# Altium integrated library radFET-calibration_stand_card.IntLib: 9 symbols
Pins are listed as number, name and electrical type; pins without a type are passive.

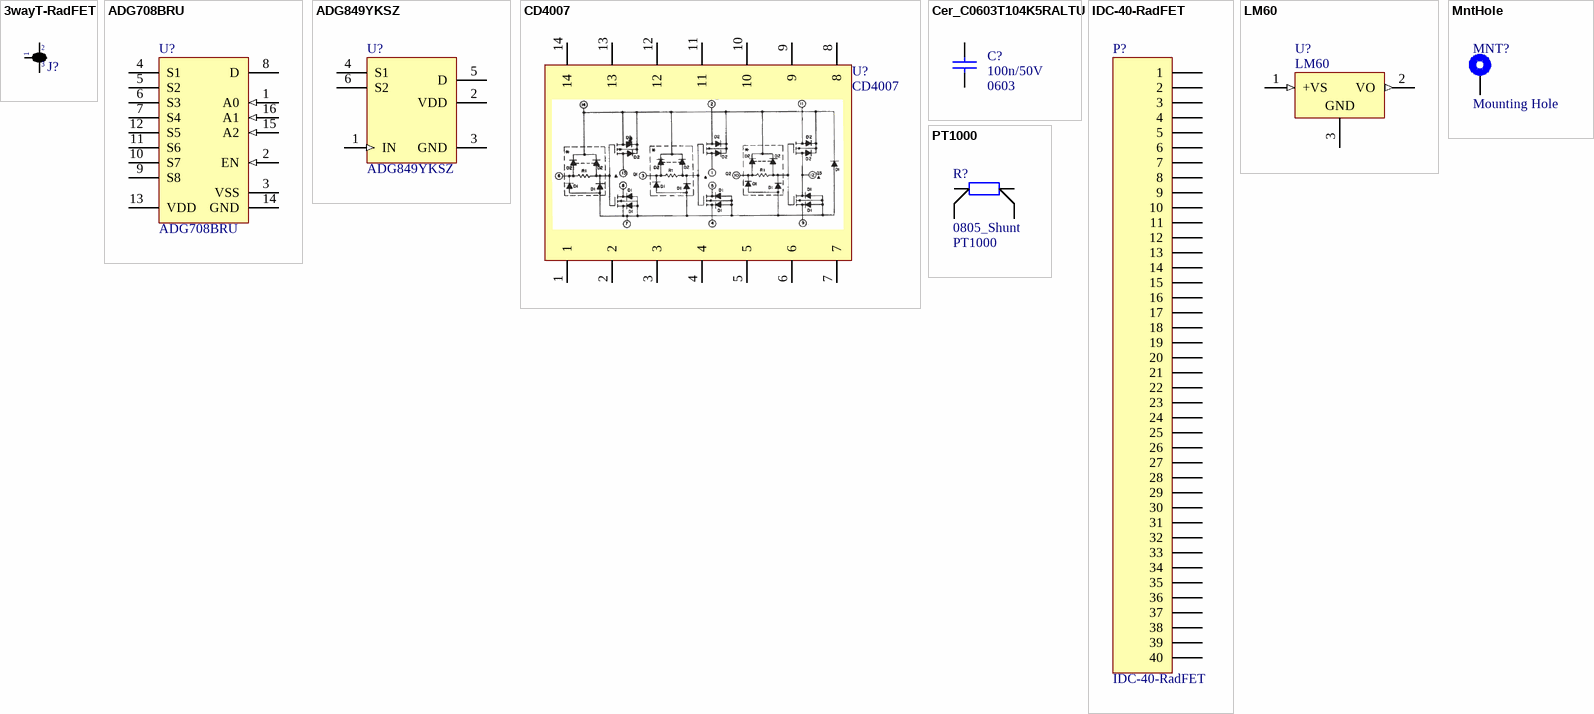
[diagram p0: symbols 3wayT-RadFET to PT1000]

## 3wayT-RadFET
designator J?, comment 3 way net tie junction T shape  (value not drawn)  (net tie, no BOM)
Note: 2 display modes available; ComponentLink1URL: http://www.edatools.cz/addons; ComponentLink1Description: Source; FootprintNote: LP=12mil, MP=40mil, HP=120mil
footprint 3WaySplitter-RadFET (3WaySplitter)
footprint 3WaySplitter-RadFET - Test (3WaySplitter)
footprint 3WaySplitter-RadFET-Test
pins: 1, 2, 3

## ADG708BRU
designator U?
1.8 to 5.5 V / +/-2.5 V, CMOS Low Voltage 3 Ohm, 8-Channel Multiplexer, -40 to 125 degC, 16-pin SOP (RU-16), Tube; Manufacturer: Analog Devices; Bandwidth (Hz): 55M; Max Analog Signal Range: Vss to Vdd; Ron (ohms): 3; Supply V Guar Performance: Dual_(+/-2.5V), Single_(+3V), Single_(+5V); t transition (s): 14n; DatasheetVersion: Rev. C; PackageVersion: Nov-02; PackageReference: RU-16; PackageDescription: 16-Pin Thin Shrink Small Outline Package, Body 5 x 4.4 mm, Pitch 0.65 mm; Supplier 1: Digi-Key; Supplier Part Number 1: ADG708BRU-ND; Supplier 2: Mouser; Supplier Part Number 2: 584-ADG708BRU; Packing: Tube; Mounting Technology: Surface Mount; Code_JEDEC: MO-153AB; PartNumber: ADG708BRU; ComponentLink1Description: Manufacturer URL; ComponentLink1URL: http://www.analog.com/en/index.html; ComponentLink2Description: Datasheet; ComponentLink2URL: http://www.analog.com/static/imported-files/data_sheets/ADG708_709.pdf; ComponentLink3Description: Package Specification; ComponentLink3URL: http:/www.analog.com/static/imported-files/packages/36244347913743854010197452789RU16.pdf
footprint ADI-RU-16_N (SOP, 16-Leads, Body 5x4.4mm, Pitch 0.65mm, IPC Medium Density)
footprint ADI-RU-16_L (SOP, 16-Leads, Body 5x4.4mm, Pitch 0.65mm, IPC High Density)
footprint ADI-RU-16_M (SOP, 16-Leads, Body 5x4.4mm, Pitch 0.65mm, IPC Low Density)
pins: 1 A0 (in) "Digital Input. Controls the configuration of the switch, as shown in the truth table (see Table 7).", 2 EN (in) "Digital Input. Controls the configuration of the switch, as shown in the truth table (see Table 7).", 3 VSS (power) "Most Negative Power Supply Pin in Dual-Supply Applications. For single-supply applications, it should be tied to GND.", 4 S1 "Source Terminal. Can be an input or output.", 5 S2 "Source Terminal. Can be an input or output.", 6 S3 "Source Terminal. Can be an input or output.", 7 S4 "Source Terminal. Can be an input or output.", 8 D "Drain Terminal. Can be an input or output.", 9 S8 "Source Terminal. Can be an input or output.", 10 S7 "Source Terminal. Can be an input or output.", 11 S6 "Source Terminal. Can be an input or output.", 12 S5 "Source Terminal. Can be an input or output.", 13 VDD (power) "Most Positive Power Supply Pin.", 14 GND (power) "Ground (0 V) Reference.", 15 A2 (in) "Digital Input. Controls the configuration of the switch, as shown in the truth table (see Table 7).", 16 A1 (in) "Digital Input. Controls the configuration of the switch, as shown in the truth table (see Table 7)."

## ADG849YKSZ
designator U?
CMOS Analog switch; Manufacturer: Analog Devices; ManufacturerPartNumber: ADG849YKSZ
footprint SC70-LT6_N (SOT353, 6-Leads, Body 2x1.3mm, Pitch 0.65mm, Lead Span 2.1mm, IPC Medium Density)
pins: 1 IN (in) "Digital Input. Controls the configuration of the switch.", 2 VDD (power) "Most Positive Power Supply Pin.", 3 GND (power) "Ground (0 V) Reference.", 4 S1, 5 D, 6 S2

## CD4007
designator U?
CMOS Dual Complementary Pair Plus Inverter; ComponentLink1URL: http://www.mouser.com/catalog/specsheets/AT45DB041D.pdf; ComponentLink1Description: Datasheet
footprint TSSOP14 (TSSOP, 14-Leads, Body 5.00x4.40mm, Pitch 0.65mm, IPC Medium Density)
pins: 1, 2, 3, 4, 5, 6, 7, 8, 9, 10, 11, 12, 13, 14

## Cer_C0603T104K5RALTU
designator C?, comment Package: 0603  (hidden comment: 100n/50V)
Ceramic Cap Kemet COTS 100n/50V X7R 0603; ManufacturerPartNumber: C0603T104K5RALTU; Manufacturer: Kemet; Value: 100n/50V
footprint SMD_Capacitor_0603 (SMD Capacitor, Inch 0603, Metric 1608.)
pins: 1, 2

## IDC-40-RadFET
designator P?
LatestRevisionDate: 17-Jul-2002; LatestRevisionNote: Re-released for DXP Platform.; Publisher: Altium Limited
footprint HDR2X20 (Connector; Header; 20x2 Position)
footprint IDC-40-Male-Socket (Male Socket; IDC 40-pin, 2.54 mm pitch)
footprint IDC-40-Male-Socket-Angle (Connector; IDC 40, Male Socket Angle)
pins: 1, 2, 3, 4, 5, 6, 7, 8, 9, 10, 11, 12, 13, 14, 15, 16, 17, 18, 19, 20, 21, 22, 23, 24, 25, 26, 27, 28, 29, 30, 31, 32, 33, 34, 35, 36, 37, 38, 39, 40

## LM60
designator U?
Analog temperature sensor
footprint SOT23-3 (JEDEC TO-236AB package.)
pins: 1 +VS (in), 2 VO (out), 3 GND (power)

## MntHole
designator MNT?, comment Mounting Hole
PCB Mounting Hole; Value: Mounting Hole
footprint PC-104_PcbMntHole_M3 (PCB Mounting Hole for PC-104 standard. Based on Pumpkin's Kit.)
pins: 1

## PT1000
designator R?  Package: 0805_Shunt  (hidden comment: PT1000)
Platinum Thin-Film Chip Sensor; Manufacturer: IST INNOVATIVE SENSOR TECHNOLOGY; ManufacturerPartNumber: P1K0.0805.2P.A; TCR: 3850ppm/K; Farnell: http://pl.farnell.com/ist-innovative-sensor-technology/p1k0-0805-2p-a/sensor-pt1000-smd0805-class-a/dp/1266951; Manufacturer's Datasheet: http://www.farnell.com/datasheets/57422.pdf; Value: PT1000
footprint SMD_Resistor-shunt_0805 (SMD Shunt Resistor, Inch 0805, Metric 2012.)
pins: 1, 2, 3, 4